# EAGLE library part SMF05C (library SMF05C)
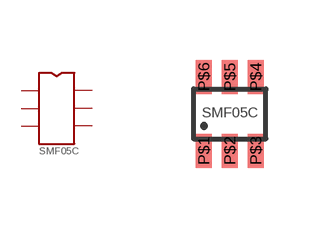
[diagram p0: symbol with the pads of SMF05C-PAC; footprint SMF05C-PAC]

Designator prefix -

## SMF05C  [SMF05C-PAC]
P$1  P$1
P$2  P$2
P$3  P$3
P$4  P$4
P$5  P$5
P$6  P$6

## Footprint SMF05C-PAC (pad centres in mm)
smd 0.4 x 0.85: P$1 0.2,0.43; P$2 0.85,0.43; P$3 1.5,0.43; P$4 1.5,2.28; P$5 0.85,2.28; P$6 0.2,2.28